# Altium schematic symbol library STM32G471MET3.SchLib: 1 symbol
Pins are listed as number, name and electrical type; pins without a type are passive.

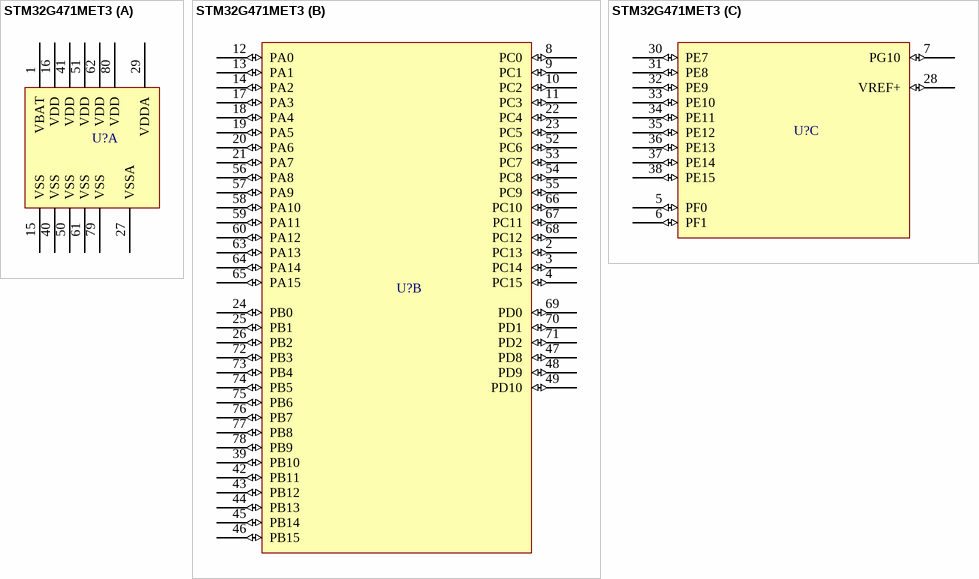
[diagram p0: symbol STM32G471MET3]

## STM32G471MET3
designator U?  (value not drawn)
Mainstream Arm Cortex-M4 core with DSP and FPU, 170 MHz with 512 Kbytes of Flash memory, Math Accelerator , Medium Analog level integration
part A pins: 1 VBAT (power), 15 VSS (power), 16 VDD (power), 27 VSSA (power), 29 VDDA (power), 40 VSS (power), 41 VDD (power), 50 VSS (power), 51 VDD (power), 61 VSS (power), 62 VDD (power), 79 VSS (power), 80 VDD (power)
part B pins: 2 PC13 (io), 3 PC14 (io), 4 PC15 (io), 8 PC0 (io), 9 PC1 (io), 10 PC2 (io), 11 PC3 (io), 12 PA0 (io), 13 PA1 (io), 14 PA2 (io), 17 PA3 (io), 18 PA4 (io), 19 PA5 (io), 20 PA6 (io), 21 PA7 (io), 22 PC4 (io), 23 PC5 (io), 24 PB0 (io), 25 PB1 (io), 26 PB2 (io), 39 PB10 (io), 42 PB11 (io), 43 PB12 (io), 44 PB13 (io), 45 PB14 (io), 46 PB15 (io), 47 PD8 (io), 48 PD9 (io), 49 PD10 (io), 52 PC6 (io), 53 PC7 (io), 54 PC8 (io), 55 PC9 (io), 56 PA8 (io), 57 PA9 (io), 58 PA10 (io), 59 PA11 (io), 60 PA12 (io), 63 PA13 (io), 64 PA14 (io), 65 PA15 (io), 66 PC10 (io), 67 PC11 (io), 68 PC12 (io), 69 PD0 (io), 70 PD1 (io), 71 PD2 (io), 72 PB3 (io), 73 PB4 (io), 74 PB5 (io), 75 PB6 (io), 76 PB7 (io), 77 PB8 (io), 78 PB9 (io)
part C pins: 5 PF0 (io), 6 PF1 (io), 7 PG10 (io), 28 VREF+ (io), 30 PE7 (io), 31 PE8 (io), 32 PE9 (io), 33 PE10 (io), 34 PE11 (io), 35 PE12 (io), 36 PE13 (io), 37 PE14 (io), 38 PE15 (io)